# EAGLE library part 338070-18 (library con-te-micro-match)
RECEPTACAL
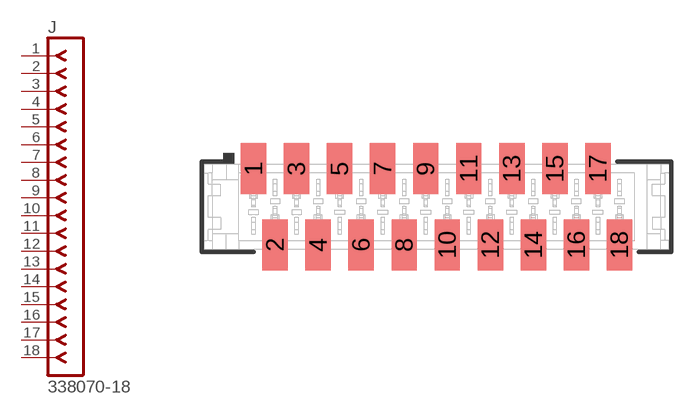
[diagram p6: symbol with the pads of 338070-18; footprint 338070-18]

Designator prefix J

## 338070-18  [338070-18]
1  1  pas
2  2  pas
3  3  pas
4  4  pas
5  5  pas
6  6  pas
7  7  pas
8  8  pas
9  9  pas
10  10  pas
11  11  pas
12  12  pas
13  13  pas
14  14  pas
15  15  pas
16  16  pas
17  17  pas
18  18  pas

## Footprint 338070-18 (pad centres in mm)
RECEPTACAL
smd 1.5 x 3: 1 -10.795,2.25; 2 -9.525,-2.25; 3 -8.255,2.25; 4 -6.985,-2.25; 5 -5.715,2.25; 6 -4.445,-2.25; 7 -3.175,2.25; 8 -1.905,-2.25; 9 -0.635,2.25; 10 0.635,-2.25; 11 1.905,2.25; 12 3.175,-2.25; 13 4.445,2.25; 14 5.715,-2.25; 15 6.985,2.25; 16 8.255,-2.25; 17 9.525,2.25; 18 10.795,-2.25